# Altium schematic symbol library PESD3V3L1BA-N1_PESD3V3L1BA-N.schdoc.SCHLIB: 1 symbol
Pins are listed as number, name and electrical type; pins without a type are passive.

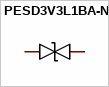
[diagram p0: symbol PESD3V3L1BA-N]

## PESD3V3L1BA-N
designator D??  (value not drawn)
Add into BOM: yes; Symbol: PESD3V3L1BA-N; Device: PESD3V3L1BA-N; Supplier: LCSC; Supplier Part: C316020; Manufacturer Part: PESD3V3L1BA-N; JLCPCB Part Class: Extended Part; LCSC Part Name: PESD3V3L1BA-N; Supplier Footprint: SOD-323; Datasheet: https://atta.szlcsc.com/upload/public/pdf/source/20181025/C316020_2B145715011D530A3B5DDCE0F9684BA2.pdf; Convert to PCB: yes
footprint SOD-323_L1.8-W1.3-LS2.5-BI
pins: 1, 2